# EAGLE library part AD7834 (library analog_devices)
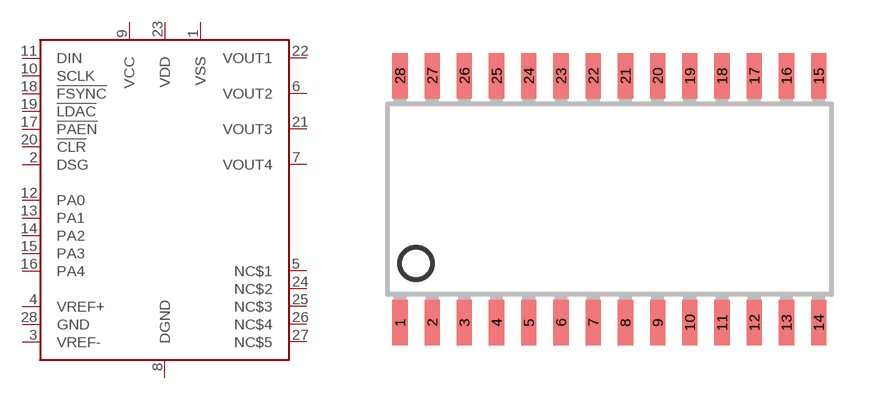
[diagram p0: symbol with the pads of SOIC28-3; footprint SOIC28-3]

Designator prefix -

## AD7834  [SOIC28-3]
1  VSS
2  DSG
3  VREF-
4  VREF+
5  NC$1  nc
6  VOUT2
7  VOUT4
8  DGND
9  VCC
10  SCLK
11  DIN
12  PA0
13  PA1
14  PA2
15  PA3
16  PA4
17  !PAEN
18  !FSYNC
19  !LDAC
20  !CLR
21  VOUT3
22  VOUT1
23  VDD
24  NC$2  nc
25  NC$3  nc
26  NC$4  nc
27  NC$5  nc
28  GND

## Footprint SOIC28-3 (pad centres in mm)
28-Pin SOIC Body 7.63 mm Source: http://www.cypress.com .. CY8C21345.pdf
smd 0.6 x 1.8: 1 -8.255,-4.87; 2 -6.985,-4.87; 3 -5.715,-4.87; 4 -4.445,-4.87; 5 -3.175,-4.87; 6 -1.905,-4.87; 7 -0.635,-4.87; 8 0.635,-4.87; 9 1.905,-4.87; 10 3.175,-4.87; 11 4.445,-4.87; 12 5.715,-4.87; 13 6.985,-4.87; 14 8.255,-4.87; 15 8.255,4.87; 16 6.985,4.87; 17 5.715,4.87; 18 4.445,4.87; 19 3.175,4.87; 20 1.905,4.87; 21 0.635,4.87; 22 -0.635,4.87; 23 -1.905,4.87; 24 -3.175,4.87; 25 -4.445,4.87; 26 -5.715,4.87; 27 -6.985,4.87; 28 -8.255,4.87